# Altium footprint library 2EDGRC-5.0-09P-14-00AH_removedPins.PcbLib: 1 footprints
Each footprint in its own frame and in the unit in brackets; x right, y up, seen from the top. Pads: shape width x height; smd on the part's side, far side on the other; paste and mask are expansions set on the pad; w line width, h text height; cw(c..) or ccw(c..) is an arc to the next point about the centre after c.
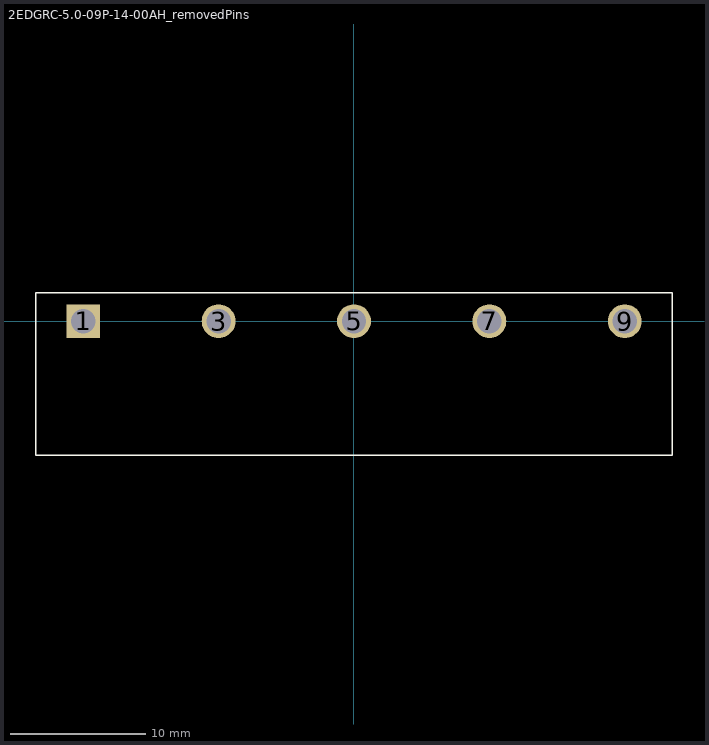
[diagram p0: the footprint, top view; thin cyan lines are the x and y axes]

## 2EDGRC-5.0-09P-14-00AH_removedPins [mm]
height 8.6
pads (5):
  rect 2.5x2.5 hole 1.8: 1(-20,0)
  round 2.5 hole 1.8: 3(-10,0) 5(0,0) 7(10,0) 9(20,0)
Top Overlay:
  lines w0.1: -23.5,-9.9 23.5,-9.9 23.5,2.1 -23.5,2.1 -23.5,-9.9
3D body "2EDGRC-5.0-09P-1Y-100A&Z(H).stp": height 8.6, standoff -3.1, extent -23.5,-9.9 23.5,2.1